# EAGLE library part ATMEGA48A (library 000-ece411)
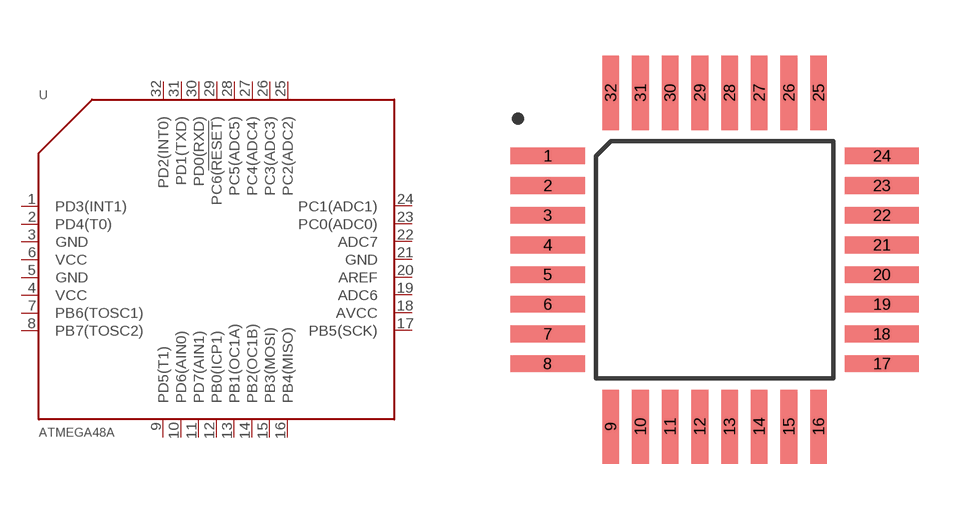
[diagram p5: symbol with the pads of TQFP-32; footprint TQFP-32]

Designator prefix U

## ATMEGA48A  [TQFP-32]
1  PD3(INT1)
2  PD4(T0)
3  GND
4  VCC
5  GND
6  VCC
7  PB6(TOSC1)
8  PB7(TOSC2)
9  PD5(T1)
10  PD6(AIN0)
11  PD7(AIN1)
12  PB0(ICP1)
13  PB1(OC1A)
14  PB2(OC1B)
15  PB3(MOSI)
16  PB4(MISO)
17  PB5(SCK)
18  AVCC
19  ADC6
20  AREF
21  GND
22  ADC7
23  PC0(ADC0)
24  PC1(ADC1)
25  PC2(ADC2)
26  PC3(ADC3)
27  PC4(ADC4)
28  PC5(ADC5)
29  PC6(!RESET!)
30  PD0(RXD)
31  PD1(TXD)
32  PD2(INT0)

## Footprint TQFP-32 (pad centres in mm)
32 pin TQFP package
smd 2 x 0.45: 1 0,0; 2 0,-0.8; 3 0,-1.6; 4 0,-2.4; 5 0,-3.2; 6 0,-4; 7 0,-4.8; 8 0,-5.6; 17 9,-5.6; 18 9,-4.8; 19 9,-4; 20 9,-3.2; 21 9,-2.4; 22 9,-1.6; 23 9,-0.8; 24 9,0
smd 0.45 x 2: 9 1.7,-7.3; 10 2.5,-7.3; 11 3.3,-7.3; 12 4.1,-7.3; 13 4.9,-7.3; 14 5.7,-7.3; 15 6.5,-7.3; 16 7.3,-7.3; 25 7.3,1.7; 26 6.5,1.7; 27 5.7,1.7; 28 4.9,1.7; 29 4.1,1.7; 30 3.3,1.7; 31 2.5,1.7; 32 1.7,1.7